# EAGLE library part ADS1232* (library ipas)
ADS1232 Texas Instruments 24-Bit Analog-to-Digital Converter For Bridge Sensors Package: TSSOP-24 (TI-postfix "PW") Dipl.-Ing. FH Rainer Bayer Hochschule Heilbronn – rainer.bayer@hs-heilbronn.de Ingenieurbüro ing-rb – eagle@ing-rb.de
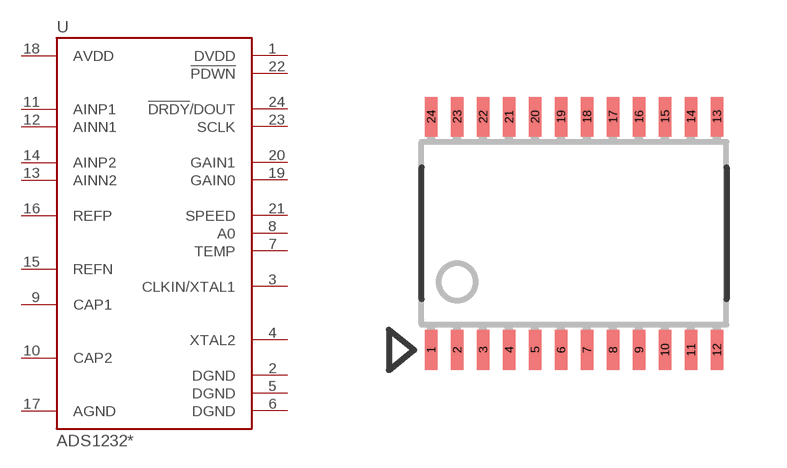
[diagram p43: symbol with the pads of TSSOP24; footprint TSSOP24]

Designator prefix U

## ADS1232IPW  [TSSOP24]
1  DVDD  pwr
2  DGND  pwr
3  CLKIN/XTAL1  pas
4  XTAL2  pas
5  DGND  pwr
6  DGND  pwr
7  TEMP  in
8  A0  in
9  CAP1  pas
10  CAP2  pas
11  AINP1  pas
12  AINN1  pas
13  AINN2  pas
14  AINP2  pas
15  REFN  in
16  REFP  in
17  AGND  pwr
18  AVDD  pwr
19  GAIN0  in
20  GAIN1  in
21  SPEED  in
22  !PDWN  in
23  SCLK  in
24  !DRDY!/DOUT  out

## Footprint TSSOP24 (pad centres in mm)
Thin Shrink Small Outline Plastic 24
smd 0.305 x 0.991: 1 -3.575,-2.918; 2 -2.925,-2.918; 3 -2.275,-2.918; 4 -1.625,-2.918; 5 -0.975,-2.918; 6 -0.325,-2.918; 7 0.325,-2.918; 8 0.975,-2.918; 9 1.625,-2.918; 10 2.275,-2.918; 11 2.925,-2.918; 12 3.575,-2.918; 13 3.575,2.918; 14 2.925,2.918; 15 2.275,2.918; 16 1.625,2.918; 17 0.975,2.918; 18 0.325,2.918; 19 -0.325,2.918; 20 -0.975,2.918; 21 -1.625,2.918; 22 -2.275,2.918; 23 -2.925,2.918; 24 -3.575,2.918